# Altium integrated library K7803M-1000R3.IntLib: 1 symbol
Pins are listed as number, name and electrical type; pins without a type are passive.

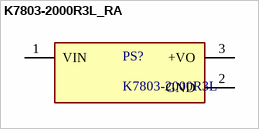
[diagram p0: symbol K7803-2000R3L_RA]

## K7803-2000R3L_RA
designator PS?, comment K7803-2000R3L
Wide input Non-isolated regulated single output 4.75-18VDC input 3.3VDC Output @ 1.5A; Mantech Part Number: 35M7223; MF: Mornsun America, LLC; Package: SIP-3-3 MORNSUN; MP: K7803-2000R3L; Value: *
footprint CONV_K7803M-1000R3
pins: 1 VIN, 2 GND (power), 3 +VO